# Altium footprint library TQFP贴片芯片.PcbLib: 17 footprints (part 2 of 2)
Each footprint in its own frame and in the unit in brackets; x right, y up, seen from the top. Pads: shape width x height; smd on the part's side, far side on the other; paste and mask are expansions set on the pad; w line width, h text height; cw(c..) or ccw(c..) is an arc to the next point about the centre after c.
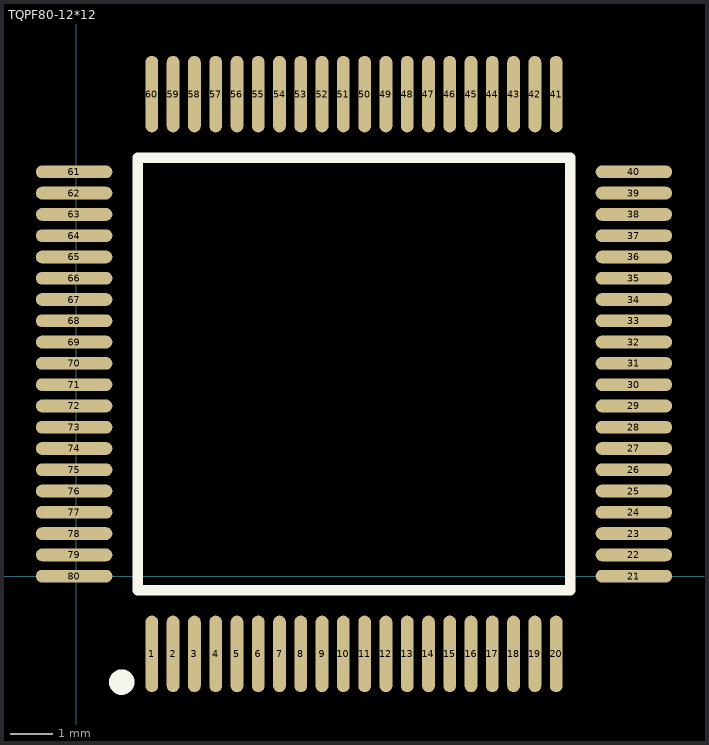
[diagram p1: the footprint, top view; thin cyan lines are the x and y axes]

## TQPF80-12*12 [mm] "12x12mm, 0.5mm(蒜米工坊）"
pads (80):
  oval 0.3x1.8 smd: 1(1.775,-1.826) 2(2.275,-1.826) 3(2.775,-1.826) 4(3.275,-1.826) 5(3.775,-1.826) 6(4.275,-1.826) 7(4.775,-1.826) 8(5.275,-1.826) 9(5.775,-1.826) 10(6.275,-1.826) 11(6.775,-1.826) 12(7.275,-1.826) 13(7.775,-1.826) 14(8.275,-1.826) 15(8.775,-1.826) 16(9.275,-1.826) 17(9.775,-1.826) 18(10.275,-1.826) 19(10.775,-1.826) 20(11.275,-1.826) 41(11.275,11.326) 42(10.775,11.326) 43(10.275,11.326) 44(9.775,11.326) 45(9.275,11.326) 46(8.775,11.326) 47(8.275,11.326) 48(7.775,11.326) 49(7.275,11.326) 50(6.775,11.326) 51(6.275,11.326) 52(5.775,11.326) 53(5.275,11.326) 54(4.775,11.326) 55(4.275,11.326) 56(3.775,11.326) 57(3.275,11.326) 58(2.775,11.326) 59(2.275,11.326) 60(1.775,11.326)
  oval 1.8x0.3 smd: 21(13.102,0) 22(13.102,0.5) 23(13.102,1) 24(13.102,1.5) 25(13.102,2) 26(13.102,2.5) 27(13.102,3) 28(13.102,3.5) 29(13.102,4) 30(13.102,4.5) 31(13.102,5) 32(13.102,5.5) 33(13.102,6) 34(13.102,6.5) 35(13.102,7) 36(13.102,7.5) 37(13.102,8) 38(13.102,8.5) 39(13.102,9) 40(13.102,9.5) 61(-0.051,9.5) 62(-0.051,9) 63(-0.051,8.5) 64(-0.051,8) 65(-0.051,7.5) 66(-0.051,7) 67(-0.051,6.5) 68(-0.051,6) 69(-0.051,5.5) 70(-0.051,5) 71(-0.051,4.5) 72(-0.051,4) 73(-0.051,3.5) 74(-0.051,3) 75(-0.051,2.5) 76(-0.051,2) 77(-0.051,1.5) 78(-0.051,1) 79(-0.051,0.5) 80(-0.051,0)
Top Overlay:
  circle w0.35: c1.067,-2.489 r0.125
  lines w0.254: 1.445,-0.33 11.605,-0.33 11.605,9.83 1.445,9.83 1.445,-0.33
3D body "TQFP80_12x12.STEP": height 1.05, standoff 0, extent -0.483,-2.235 13.522,11.769